# Altium footprint library GRC PCB library.PcbLib: 166 footprints (part 1 of 11)
Each footprint in its own frame and in the unit in brackets; x right, y up, seen from the top. Pads: shape width x height; smd on the part's side, far side on the other; paste and mask are expansions set on the pad; w line width, h text height; cw(c..) or ccw(c..) is an arc to the next point about the centre after c.
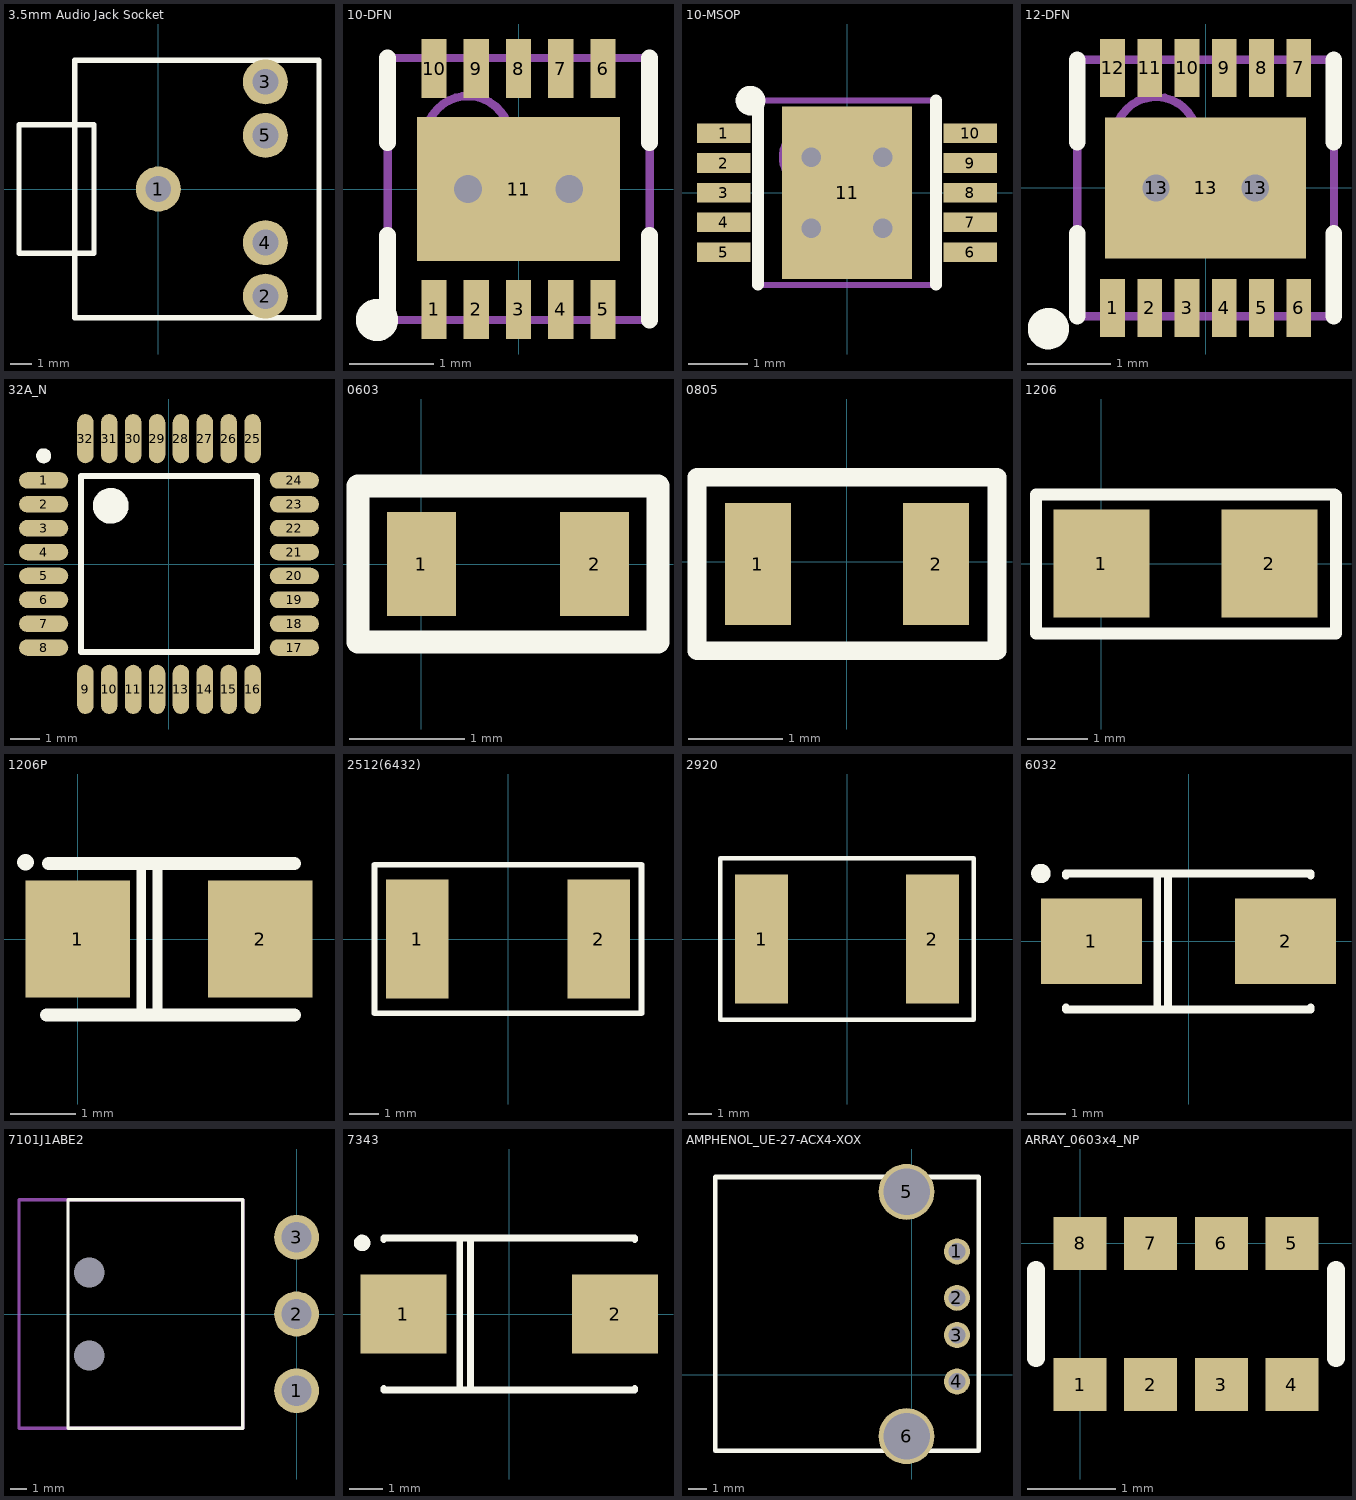
[diagram p0: the footprints below, top view; thin cyan lines are the x and y axes]

## 3.5mm Audio Jack Socket [mm] "pcb mount 3.5mm socket"
height 5.5
pads (5):
  round 2.1 hole 1.2: 1(0,0) 2(5,-5) 3(5,5) 4(5,-2.5) 5(5,2.5)
Top Overlay:
  lines w0.254: -6.5,-3 -3.9,-3 -3,-3 -3,3 -3.9,3 -6.5,3 -6.5,-3 ; -3.9,-6 7.5,-6 7.5,6 -3.9,6 -3.9,-6

## 10-DFN [mm] "DD Package - 10-Lead Plastic DFN (3mm × 3mm)"
height 0.8
pads (11):
  rect 0.3x0.7 smd: 1(-1,-1.425) 2(-0.5,-1.425) 3(0,-1.425) 4(0.5,-1.425) 5(1,-1.425) 6(1,1.425) 7(0.5,1.425) 8(0,1.425) 9(-0.5,1.425) 10(-1,1.425)
  rect 2.4x1.7 smd: 11(0,0)
via -0.6,0 diameter 0.66 hole 0.33
via 0.6,0 diameter 0.66 hole 0.33
Top Overlay:
  circle w0.25: c-1.675,-1.55 r0.125
  lines w0.2: -1.55,-1.55 -1.55,-0.55 ; -1.55,0.55 -1.55,1.55 ; 1.55,-1.55 1.55,-0.55 ; 1.55,0.55 1.55,1.55
Mechanical 13:
  circle w0.1: c-0.6,0.6 r0.5
  lines w0.1: -1.55,-1.55 -1.55,1.55 1.55,1.55 1.55,-1.55 -1.55,-1.55

## 10-MSOP [mm] "10-Lead Plastic MSOP, Exposed Die Pad"
height 1.1
pads (11):
  rect 0.9x0.33 smd: 1(-2.075,1) 2(-2.075,0.5) 3(-2.075,0) 4(-2.075,-0.5) 5(-2.075,-1) 6(2.075,-1) 7(2.075,-0.5) 8(2.075,0) 9(2.075,0.5) 10(2.075,1)
  rect 2.18x2.9 smd: 11(0,0)
via -0.6,0.6 diameter 0.66 hole 0.33
via 0.6,0.6 diameter 0.66 hole 0.33
via -0.6,-0.6 diameter 0.66 hole 0.33
via 0.6,-0.6 diameter 0.66 hole 0.33
Top Overlay:
  circle w0.25: c-1.625,1.55 r0.125
  lines w0.2: -1.5,-1.55 -1.5,1.55 ; 1.5,-1.55 1.5,1.55
Mechanical 13:
  circle w0.1: c-0.6,0.6 r0.5
  lines w0.1: -1.55,-1.55 -1.55,1.55 1.55,1.55 1.55,-1.55 -1.55,-1.55
3D body: height 1.1, standoff 0.1, extent -1.55,-1.55 1.55,1.55

## 12-DFN [mm] "DD Package - 12-Lead Plastic DFN (3mm × 3mm)"
height 0.8
pads (15):
  rect 0.3x0.7 smd: 1(-1.125,-1.45) 2(-0.675,-1.45) 3(-0.225,-1.45) 4(0.225,-1.45) 5(0.675,-1.45) 6(1.125,-1.45) 7(1.125,1.45) 8(0.675,1.45) 9(0.225,1.45) 10(-0.225,1.45) 11(-0.675,1.45) 12(-1.125,1.45)
  round 0.66 hole 0.33: 13(-0.6,0) 13(0.6,0)
  rect 2.43x1.7 smd: 13(0,0)
Top Overlay:
  circle w0.25: c-1.9,-1.7 r0.125
  lines w0.2: -1.55,-1.55 -1.55,-0.55 ; -1.55,0.55 -1.55,1.55 ; 1.55,-1.55 1.55,-0.55 ; 1.55,0.55 1.55,1.55
Mechanical 13:
  circle w0.1: c-0.6,0.6 r0.5
  lines w0.1: -1.55,-1.55 1.55,-1.55 1.55,1.55 -1.55,1.55 -1.55,-1.55

## 32A_N [mm] "32-Pin Thin Quad Flat Pack 0.8 mm Pitch, IPC Medium Density"
height 1.2
pads (32):
  oval 1.65x0.55 smd: 1(-4.2,2.8) 2(-4.2,2) 3(-4.2,1.2) 4(-4.2,0.4) 5(-4.2,-0.4) 6(-4.2,-1.2) 7(-4.2,-2) 8(-4.2,-2.8) 17(4.2,-2.8) 18(4.2,-2) 19(4.2,-1.2) 20(4.2,-0.4) 21(4.2,0.4) 22(4.2,1.2) 23(4.2,2) 24(4.2,2.8)
  oval 0.55x1.65 smd: 9(-2.8,-4.2) 10(-2,-4.2) 11(-1.2,-4.2) 12(-0.4,-4.2) 13(0.4,-4.2) 14(1.2,-4.2) 15(2,-4.2) 16(2.8,-4.2) 25(2.8,4.2) 26(2,4.2) 27(1.2,4.2) 28(0.4,4.2) 29(-0.4,4.2) 30(-1.2,4.2) 31(-2,4.2) 32(-2.8,4.2)
Top Overlay:
  circle w0.25: c-4.2,3.625 r0.125
  circle w0.6: c-1.95,1.95 r0.3
  lines w0.2: -2.95,-2.95 -2.95,2.95 2.95,2.95 2.95,-2.95 -2.95,-2.95

## 0603 [mm] "Non polarized 0603 footprint"
height 0.5
pads (2):
  rect 0.6x0.9 smd: 1(0,0) 2(1.5,0)
Top Overlay:
  lines w0.2: -0.55,-0.675 -0.55,0.675 2.05,0.675 2.05,-0.675 -0.55,-0.675

## 0805 [mm]
height 0.5
pads (2):
  rect 0.7x1.3 smd: 1(-0.95,-0.025) 2(0.95,-0.025)
Top Overlay:
  lines w0.2: -1.6,-0.95 -1.6,0.45 -1.6,0.9 1.6,0.9 1.6,-0.95 -1.6,-0.95

## 1206 [mm] "Non-polarized 1206 footprint"
height 3
pads (2):
  rect 1.6x1.8 smd: 1(0,0) 2(2.8,0)
Top Overlay:
  lines w0.2: -1.089,1.132 -1.089,-1.168 3.911,-1.168 3.911,1.132 ; -1.089,1.157 3.886,1.157

## 1206P [mm] "Polarized 1206 footprint"
height 3
pads (2):
  rect 1.6x1.8 smd: 1(0,0) 2(2.8,0)
Top Overlay:
  lines w0.15: 0.975,-1.175 0.975,1.05 ; 1.225,-1.175 1.225,1.05
  lines w0.2: -0.475,-1.168 3.325,-1.168 ; -0.45,1.157 3.325,1.157
  lines w0.254: -0.8,1.175 -0.8,1.175

## 2512(6432) [mm] "2512 (6432 metric) non-polarized footprint"
height 0.8
pads (2):
  rect 2.1x4 smd: 1(-3.05,0) 2(3.05,0)
Top Overlay:
  lines w0.2: -4.5,-2.5 -4.5,2.5 4.5,2.5 4.5,-2.5 -4.5,-2.5

## 2920 [mm]
height 1
pads (2):
  rect 2.3x5.6 smd: 1(-3.7,0) 2(3.7,0)
Top Overlay:
  lines w0.2: -5.5,-3.5 -5.5,3.5 5.5,3.5 5.5,-3.5 -5.5,-3.5

## 6032 [mm] "6032 polarized footprint"
height 2.8
pads (2):
  rect 2.6x2.2 smd: 1(-2.503,-0.003) 2(2.497,-0.003)
Top Overlay:
  circle w0.25: c-3.803,1.747 r0.125
  lines w0.2: -3.153,-1.703 -3.153,-1.753 3.147,-1.753 3.147,-1.703 ; -3.153,1.697 -3.153,1.747 3.147,1.747 3.147,1.697 ; -0.803,-1.753 -0.803,1.747 ; -0.528,-1.753 -0.528,1.747

## 7101J1ABE2 [mm]
height 8.43
pads (5):
  round 2.75 hole 1.85: 1(0,-4.7) 2(0,0) 3(0,4.7)
  round 0 hole 1.85 unplated: 4(-12.7,2.54)
  round 0 hole 1.85: 5(-12.7,-2.54)
Top Overlay:
  lines w0.2: -14,-7 -14,7 -3.3,7 -3.3,-7 -14,-7
Mechanical 13:
  lines w0.2: -17,-7 -17,7 -3.3,7 -3.3,-7 -17,-7

## 7343 [mm] "7343 polarized footprint"
height 3
pads (2):
  rect 2.6x2.4 smd: 1(-3.202,0) 2(3.198,0)
Top Overlay:
  circle w0.25: c-4.452,2.15 r0.125
  lines w0.2: -3.802,-2.25 -3.802,-2.3 3.798,-2.3 3.798,-2.25 ; -3.802,2.25 -3.802,2.3 3.798,2.3 3.798,2.25 ; -1.502,-2.3 -1.502,2.3 ; -1.175,-2.3 -1.175,2.3

## AMPHENOL_UE-27-ACX4-XOX [mm] "USB Host A socket, Amphenol Part # UE-27-ACX4-XOX"
height 7
pads (6):
  round 1.4 hole 0.92: 1(2.425,6.65) 2(2.425,4.15) 3(2.425,2.15) 4(2.425,-0.35)
  round 3 hole 2.5: 5(-0.285,9.85) 6(-0.285,-3.29)
Top Overlay:
  lines w0.254: -10.575,-4.075 3.6,-4.075 3.6,10.65 -10.575,10.65 -10.575,-4.075

## ARRAY_0603x4_NP [mm] "0603x4 array Non Polarized"
height 0.6
pads (8):
  rect 0.6x0.6 smd: 1(0,-1.6) 2(0.8,-1.6) 3(1.6,-1.6) 4(2.4,-1.6) 5(2.4,0) 6(1.6,0) 7(0.8,0) 8(0,0)
Top Overlay:
  lines w0.2: -0.5,-1.3 -0.5,-0.3 ; 2.9,-1.3 2.9,-0.3